# Altium schematic symbol library DMG2305UX-13.SchLib: 1 symbol
Pins are listed as number, name and electrical type; pins without a type are passive.

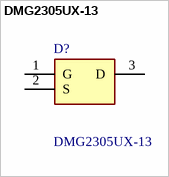
[diagram p0: symbol DMG2305UX-13]

## DMG2305UX-13
designator D?
MOSFET P-Ch 20V 5A Enhancement SOT23 Diodes Inc DMG2305UX-13 P-channel MOSFET Transistor, -3.3 A, -20 V, 3-Pin SOT-23; Manufacturer_Name: Diodes Incorporated; Geometry.Height: 1.2mm; Farnell Part Number: *; Farnell Price/Stock: *; Manufacturer_Part_Number: DMG2305UX-13; Datasheet Link: https://componentsearchengine.com/Datasheets/2/DMG2305UX-13.pdf
footprint SOT96P240X120-3N
pins: 1 G, 2 S, 3 D